# EAGLE library part MM232R (library custom)
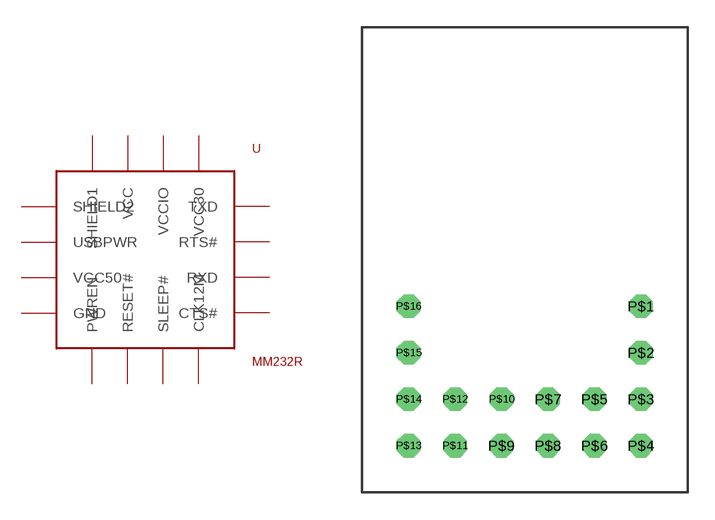
[diagram p3: symbol with the pads of MM232R; footprint MM232R]

Designator prefix -

## MM232R  [MM232R]
P$1  SHIELD1
P$2  VCC
P$3  VCCIO
P$4  VCC30
P$5  TXD
P$6  RTS#
P$7  RXD
P$8  CTS#
P$9  CLK12M
P$10  SLEEP#
P$11  RESET#
P$12  PWREN
P$13  GND
P$14  VCC50
P$15  USBPWR
P$16  SHIELD2

## Footprint MM232R (pad centres in mm)
drill 0.8 octagon: P$1 6.35,3.81; P$2 6.35,1.27; P$3 6.35,-1.27; P$4 6.35,-3.81; P$5 3.81,-1.27; P$6 3.81,-3.81; P$7 1.27,-1.27; P$8 1.27,-3.81; P$9 -1.27,-3.81; P$10 -1.27,-1.27; P$11 -3.81,-3.81; P$12 -3.81,-1.27; P$13 -6.35,-3.81; P$14 -6.35,-1.27; P$15 -6.35,1.27; P$16 -6.35,3.81